# EAGLE library part TCA9406DCUR (library tca9406)
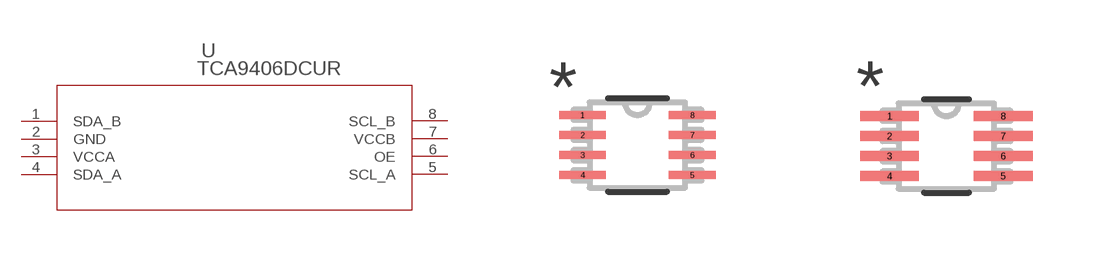
[diagram p0: symbol with the pads of DCU8; footprints DCU8, DCU8-M]

Designator prefix U

## TCA9406DCUR (MANUFACTURER_PART_NUMBER: TCA9406DCUR; VENDOR: Texas Instruments)  [DCU8]
1  SDA_B
2  GND  pwr
3  VCCA  pwr
4  SDA_A
5  SCL_A
6  OE  in
7  VCCB  pwr
8  SCL_B

## TCA9406DCURDCU8-M (MANUFACTURER_PART_NUMBER: TCA9406DCUR; VENDOR: Texas Instruments)  [DCU8-M]
Pads as for DCU8

## TCA9406DCURDCU8-L (MANUFACTURER_PART_NUMBER: TCA9406DCUR; VENDOR: Texas Instruments)  [DCU8-L]
Pads as for DCU8

## Footprint DCU8 (pad centres in mm)
smd 1.168 x 0.203: 1 -1.372,0.75; 2 -1.372,0.25; 3 -1.372,-0.25; 4 -1.372,-0.75; 5 1.372,-0.75; 6 1.372,-0.25; 7 1.372,0.25; 8 1.372,0.75

## Footprint DCU8-M (pad centres in mm)
smd 1.473 x 0.254: 1 -1.422,0.75; 2 -1.422,0.25; 3 -1.422,-0.25; 4 -1.422,-0.75; 5 1.422,-0.75; 6 1.422,-0.25; 7 1.422,0.25; 8 1.422,0.75

## Footprint DCU8-L (pad centres in mm)
smd 0.864 x 0.152: 1 -1.321,0.75; 2 -1.321,0.25; 3 -1.321,-0.25; 4 -1.321,-0.75; 5 1.321,-0.75; 6 1.321,-0.25; 7 1.321,0.25; 8 1.321,0.75